# Altium integrated library LCD_1602_2X16_BLUE-WHITE.IntLib: 1 symbol
Pins are listed as number, name and electrical type; pins without a type are passive.

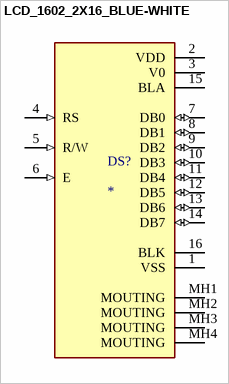
[diagram p0: symbol LCD_1602_2X16_BLUE-WHITE]

## LCD_1602_2X16_BLUE-WHITE
designator DS?
Character Display Module Transmissive 5 x 7 Dots STN - Super-Twisted Nematic, TN - Twisted Nematic LED - White 4/8-Bit 80.00mm x 36.00mm x 14.00mm; MF: UNIVERSAL-SOLDER Electronics Ltd; MP: LCD 1602 2x16 Blue-White; SnapEDA_Link: https://www.snapeda.com/parts/LCD%201602%202x16%20Blue-White/UNIVERSAL-SOLDER+Electronics+Ltd/view-part/?ref=snap; Package: None; Value: *; Check_prices: https://www.snapeda.com/parts/LCD%201602%202x16%20Blue-White/UNIVERSAL-SOLDER+Electronics+Ltd/view-part/?ref=eda
footprint LCD_LCD_1602_2X16_BLUE-WHITE
pins: 1 VSS (power), 2 VDD (power), 3 V0 (power), 4 RS (in), 5 R/W (in), 6 E (in), 7 DB0 (io), 8 DB1 (io), 9 DB2 (io), 10 DB3 (io), 11 DB4 (io), 12 DB5 (io), 13 DB6 (io), 14 DB7 (io), 15 BLA (power), 16 BLK (power), MH1 MOUTING, MH2 MOUTING, MH3 MOUTING, MH4 MOUTING